# Altium integrated library Cypress Clocks & Buffers Clock Generation.IntLib: 249 symbols (part 11 of 12)
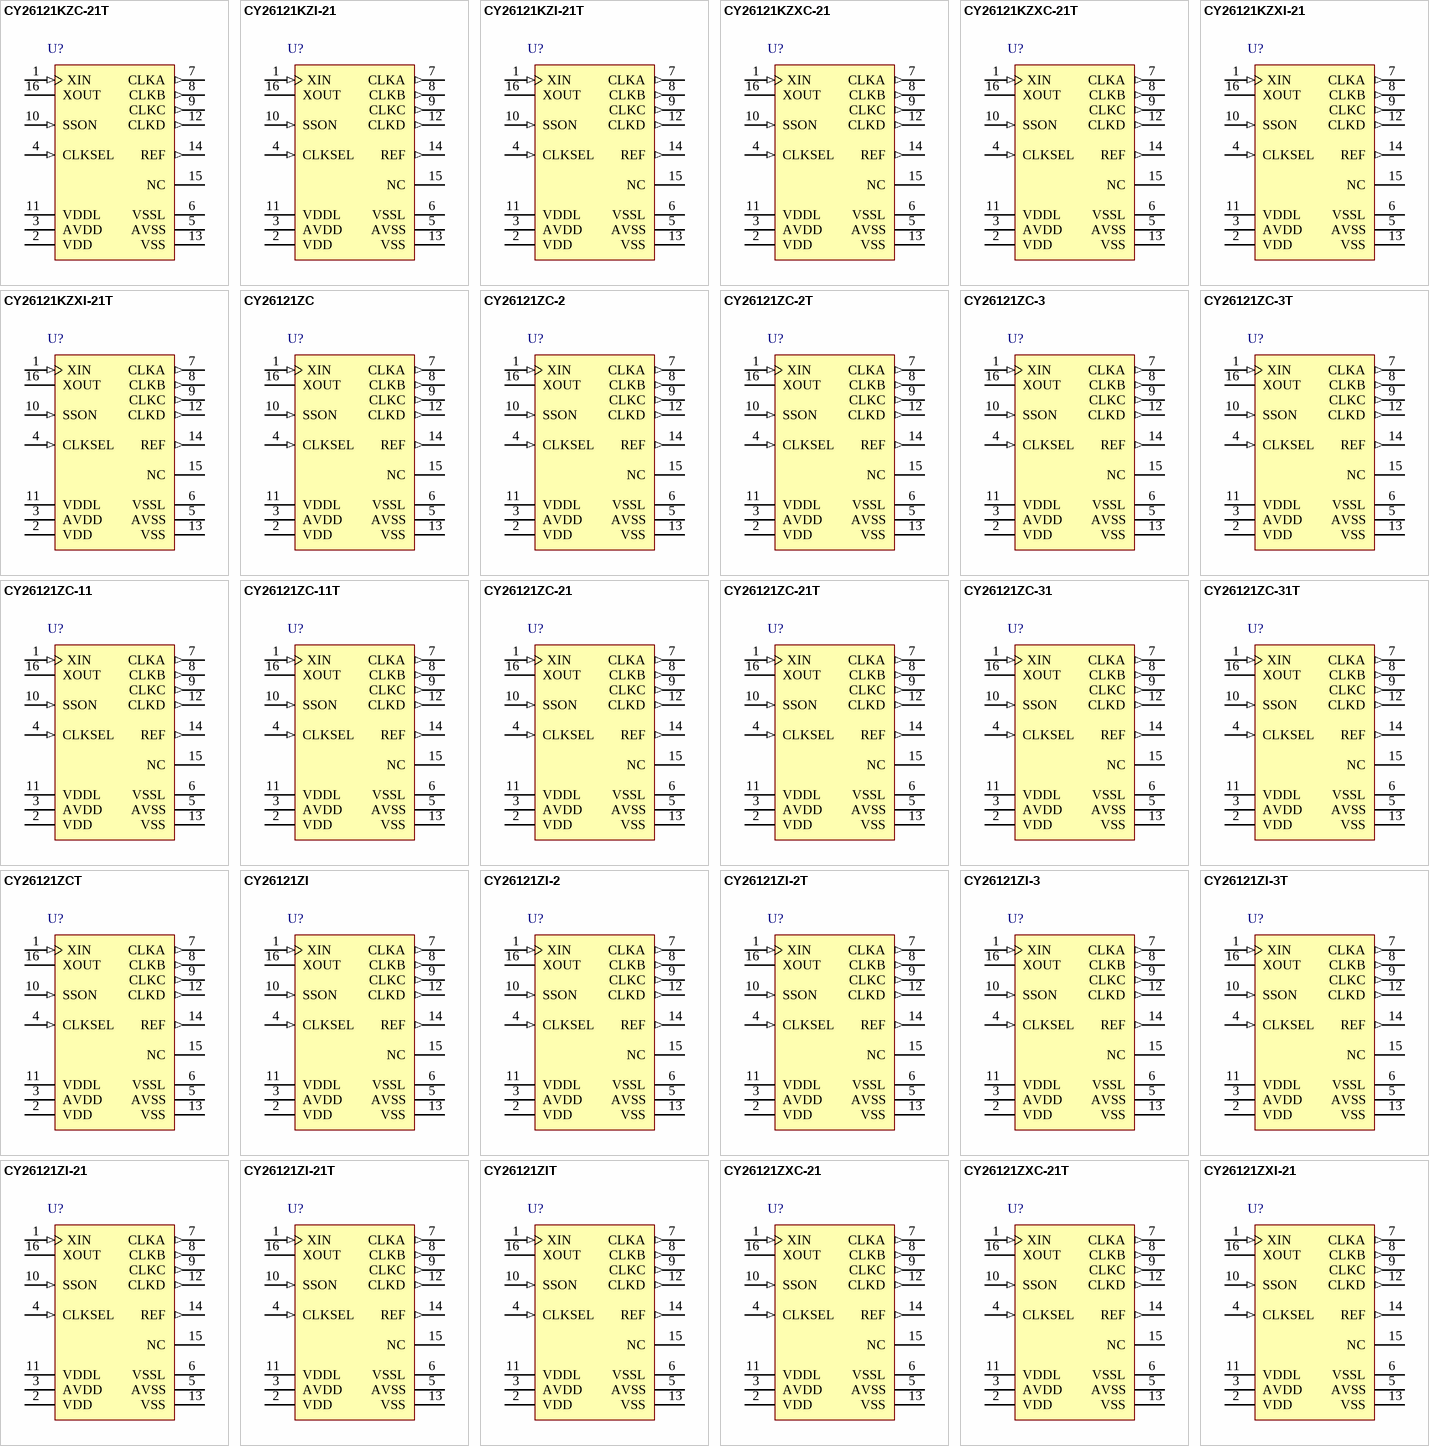
[diagram p18: symbols CY26121KZC-21T to CY26121ZXI-21]

## CY26121ZC-2T
designator U?
PacketClock(TM) Spread Spectrum Clock Generator, 3.3 V, 5 Outputs, 25 to 33.33 MHz, 0 to 70 degC, 16-Pin TSSOP (Z16), Tape and Reel; Manufacturer: Cypress; PartNumber: CY26121ZC-2T; Input Frequency Max. (MHz): 25; Max. Operating Voltage (V): 3.465; Min. Operating Voltage (V): 3.135; No. of Outputs: 5; Output Frequency Max. (MHz): 33.33; DatasheetVersion: Rev. *A; PackageVersion: Rev. *D; PackageReference: Z16; PackageDescription: 16-Pin Thin Shrink Small Outline Package, Body 5 x 4.4 mm, Pitch 0.65 mm; Input Frequency Min. (MHz): 25; Max. Operating Temp. (degreesC): 70; Min. Operating Temp. (degreesC): 0; Output Frequency Min. (MHz): 25; Packing: Tape and Reel; RoHS: Pb-Free; Mounting Technology: Surface Mount; Code_JEDEC: MO-153; ComponentLink1Description: Manufacturer URL; ComponentLink1URL: http://www.cypress.com/; ComponentLink2Description: Datasheet; ComponentLink2URL: http://www.cypress.com/?docID=5302; ComponentLink3Description: Package Specification; ComponentLink3URL: http://www.cypress.com/?docID=46959
footprint CYP-Z16_N (SOP, 16-Leads, Body 5.1x4.5mm, Pitch 0.65mm, IPC Medium Density)
footprint CYP-Z16_L (SOP, 16-Leads, Body 5.1x4.5mm, Pitch 0.65mm, IPC High Density)
footprint CYP-Z16_M (SOP, 16-Leads, Body 5.1x4.5mm, Pitch 0.65mm, IPC Low Density)
pins: 1 XIN (in) "Reference input Or Crystal Input", 2 VDD (power) "3.3V Voltage Supply", 3 AVDD (power) "3.3V Analog Voltage", 4 CLKSEL (in) "(orig., -11,-3,-31) 0 = 66.66MHz out, 1 = 33.33 MHz Out. Weak pull up. (-2, -21) 0 = 33.33MHz out, 1 = 25 MHz Out. Weak pull up.", 5 AVSS (power) "Analog Ground", 6 VSSL (power) "CLK Ground", 7 CLKA (out) "Clock Outputs at VDDL level", 8 CLKB (out) "Clock Outputs at VDDL level", 9 CLKC (out) "Clock Outputs at VDDL level", 10 SSON (in) "Spread Spectrum Enable pin 0 = SS off; 1 = SS on. Weak pull up.", 11 VDDL (power) "3.3V Clock Voltage Supply", 12 CLKD (out) "Clock Outputs at VDDL level", 13 VSS (power) "Ground", 14 REF (out) "Reference Output at VDD Level", 15 NC "No Connect", 16 XOUT "Crystal Output"

## CY26121ZC-3
designator U?
PacketClock(TM) Spread Spectrum Clock Generator, 3.3 V, 5 Outputs, 33.33 to 66.66 MHz, 0 to 70 degC, 16-Pin TSSOP (Z16), Tube; Manufacturer: Cypress; PartNumber: CY26121ZC-3; Input Frequency Max. (MHz): 25; Max. Operating Voltage (V): 3.465; Min. Operating Voltage (V): 3.135; No. of Outputs: 5; Output Frequency Max. (MHz): 66.66; Output Frequency Min. (MHz): 33.33; DatasheetVersion: Rev. *A; PackageVersion: Rev. *D; PackageReference: Z16; PackageDescription: 16-Pin Thin Shrink Small Outline Package, Body 5 x 4.4 mm, Pitch 0.65 mm; Input Frequency Min. (MHz): 25; Max. Operating Temp. (degreesC): 70; Min. Operating Temp. (degreesC): 0; Packing: Tube; RoHS: Pb-Free; Mounting Technology: Surface Mount; Code_JEDEC: MO-153; ComponentLink1Description: Manufacturer URL; ComponentLink1URL: http://www.cypress.com/; ComponentLink2Description: Datasheet; ComponentLink2URL: http://www.cypress.com/?docID=5302; ComponentLink3Description: Package Specification; ComponentLink3URL: http://www.cypress.com/?docID=46959
footprint CYP-Z16_N (SOP, 16-Leads, Body 5.1x4.5mm, Pitch 0.65mm, IPC Medium Density)
footprint CYP-Z16_L (SOP, 16-Leads, Body 5.1x4.5mm, Pitch 0.65mm, IPC High Density)
footprint CYP-Z16_M (SOP, 16-Leads, Body 5.1x4.5mm, Pitch 0.65mm, IPC Low Density)
pins: 1 XIN (in) "Reference input Or Crystal Input", 2 VDD (power) "3.3V Voltage Supply", 3 AVDD (power) "3.3V Analog Voltage", 4 CLKSEL (in) "(orig., -11,-3,-31) 0 = 66.66MHz out, 1 = 33.33 MHz Out. Weak pull up. (-2, -21) 0 = 33.33MHz out, 1 = 25 MHz Out. Weak pull up.", 5 AVSS (power) "Analog Ground", 6 VSSL (power) "CLK Ground", 7 CLKA (out) "Clock Outputs at VDDL level", 8 CLKB (out) "Clock Outputs at VDDL level", 9 CLKC (out) "Clock Outputs at VDDL level", 10 SSON (in) "Spread Spectrum Enable pin 0 = SS off; 1 = SS on. Weak pull up.", 11 VDDL (power) "3.3V Clock Voltage Supply", 12 CLKD (out) "Clock Outputs at VDDL level", 13 VSS (power) "Ground", 14 REF (out) "Reference Output at VDD Level", 15 NC "No Connect", 16 XOUT "Crystal Output"

## CY26121ZC-3T
designator U?
PacketClock(TM) Spread Spectrum Clock Generator, 3.3 V, 5 Outputs, 33.33 to 66.66 MHz, 0 to 70 degC, 16-Pin TSSOP (Z16), Tape and Reel; Manufacturer: Cypress; PartNumber: CY26121ZC-3T; Input Frequency Max. (MHz): 25; Max. Operating Voltage (V): 3.465; Min. Operating Voltage (V): 3.135; No. of Outputs: 5; Output Frequency Max. (MHz): 66.66; Output Frequency Min. (MHz): 33.33; DatasheetVersion: Rev. *A; PackageVersion: Rev. *D; PackageReference: Z16; PackageDescription: 16-Pin Thin Shrink Small Outline Package, Body 5 x 4.4 mm, Pitch 0.65 mm; Input Frequency Min. (MHz): 25; Max. Operating Temp. (degreesC): 70; Min. Operating Temp. (degreesC): 0; Packing: Tape and Reel; RoHS: Pb-Free; Mounting Technology: Surface Mount; Code_JEDEC: MO-153; ComponentLink1Description: Manufacturer URL; ComponentLink1URL: http://www.cypress.com/; ComponentLink2Description: Datasheet; ComponentLink2URL: http://www.cypress.com/?docID=5302; ComponentLink3Description: Package Specification; ComponentLink3URL: http://www.cypress.com/?docID=46959
footprint CYP-Z16_N (SOP, 16-Leads, Body 5.1x4.5mm, Pitch 0.65mm, IPC Medium Density)
footprint CYP-Z16_L (SOP, 16-Leads, Body 5.1x4.5mm, Pitch 0.65mm, IPC High Density)
footprint CYP-Z16_M (SOP, 16-Leads, Body 5.1x4.5mm, Pitch 0.65mm, IPC Low Density)
pins: 1 XIN (in) "Reference input Or Crystal Input", 2 VDD (power) "3.3V Voltage Supply", 3 AVDD (power) "3.3V Analog Voltage", 4 CLKSEL (in) "(orig., -11,-3,-31) 0 = 66.66MHz out, 1 = 33.33 MHz Out. Weak pull up. (-2, -21) 0 = 33.33MHz out, 1 = 25 MHz Out. Weak pull up.", 5 AVSS (power) "Analog Ground", 6 VSSL (power) "CLK Ground", 7 CLKA (out) "Clock Outputs at VDDL level", 8 CLKB (out) "Clock Outputs at VDDL level", 9 CLKC (out) "Clock Outputs at VDDL level", 10 SSON (in) "Spread Spectrum Enable pin 0 = SS off; 1 = SS on. Weak pull up.", 11 VDDL (power) "3.3V Clock Voltage Supply", 12 CLKD (out) "Clock Outputs at VDDL level", 13 VSS (power) "Ground", 14 REF (out) "Reference Output at VDD Level", 15 NC "No Connect", 16 XOUT "Crystal Output"

## CY26121ZC-11
designator U?
PacketClock(TM) Spread Spectrum Clock Generator, 3.3 V, 5 Outputs, 33.33 to 66.66 MHz, 0 to 70 degC, 16-Pin TSSOP (Z16), Tube; Manufacturer: Cypress; PartNumber: CY26121ZC-11; Input Frequency Max. (MHz): 25; Max. Operating Voltage (V): 3.465; Min. Operating Voltage (V): 3.135; No. of Outputs: 5; Output Frequency Max. (MHz): 66.66; Output Frequency Min. (MHz): 33.33; DatasheetVersion: Rev. *A; PackageVersion: Rev. *D; PackageReference: Z16; PackageDescription: 16-Pin Thin Shrink Small Outline Package, Body 5 x 4.4 mm, Pitch 0.65 mm; Input Frequency Min. (MHz): 25; Max. Operating Temp. (degreesC): 70; Min. Operating Temp. (degreesC): 0; Packing: Tube; RoHS: Pb-Free; Mounting Technology: Surface Mount; Code_JEDEC: MO-153; ComponentLink1Description: Manufacturer URL; ComponentLink1URL: http://www.cypress.com/; ComponentLink2Description: Datasheet; ComponentLink2URL: http://www.cypress.com/?docID=5302; ComponentLink3Description: Package Specification; ComponentLink3URL: http://www.cypress.com/?docID=46959
footprint CYP-Z16_N (SOP, 16-Leads, Body 5.1x4.5mm, Pitch 0.65mm, IPC Medium Density)
footprint CYP-Z16_L (SOP, 16-Leads, Body 5.1x4.5mm, Pitch 0.65mm, IPC High Density)
footprint CYP-Z16_M (SOP, 16-Leads, Body 5.1x4.5mm, Pitch 0.65mm, IPC Low Density)
pins: 1 XIN (in) "Reference input Or Crystal Input", 2 VDD (power) "3.3V Voltage Supply", 3 AVDD (power) "3.3V Analog Voltage", 4 CLKSEL (in) "(orig., -11,-3,-31) 0 = 66.66MHz out, 1 = 33.33 MHz Out. Weak pull up. (-2, -21) 0 = 33.33MHz out, 1 = 25 MHz Out. Weak pull up.", 5 AVSS (power) "Analog Ground", 6 VSSL (power) "CLK Ground", 7 CLKA (out) "Clock Outputs at VDDL level", 8 CLKB (out) "Clock Outputs at VDDL level", 9 CLKC (out) "Clock Outputs at VDDL level", 10 SSON (in) "Spread Spectrum Enable pin 0 = SS off; 1 = SS on. Weak pull up.", 11 VDDL (power) "3.3V Clock Voltage Supply", 12 CLKD (out) "Clock Outputs at VDDL level", 13 VSS (power) "Ground", 14 REF (out) "Reference Output at VDD Level", 15 NC "No Connect", 16 XOUT "Crystal Output"

## CY26121ZC-11T
designator U?
PacketClock(TM) Spread Spectrum Clock Generator, 3.3 V, 5 Outputs, 33.33 to 66.66 MHz, 0 to 70 degC, 16-Pin TSSOP (Z16), Tape and Reel; Manufacturer: Cypress; PartNumber: CY26121ZC-11T; Input Frequency Max. (MHz): 25; Max. Operating Voltage (V): 3.465; Min. Operating Voltage (V): 3.135; No. of Outputs: 5; Output Frequency Max. (MHz): 66.66; Output Frequency Min. (MHz): 33.33; DatasheetVersion: Rev. *A; PackageVersion: Rev. *D; PackageReference: Z16; PackageDescription: 16-Pin Thin Shrink Small Outline Package, Body 5 x 4.4 mm, Pitch 0.65 mm; Input Frequency Min. (MHz): 25; Max. Operating Temp. (degreesC): 70; Min. Operating Temp. (degreesC): 0; Packing: Tape and Reel; RoHS: Pb-Free; Mounting Technology: Surface Mount; Code_JEDEC: MO-153; ComponentLink1Description: Manufacturer URL; ComponentLink1URL: http://www.cypress.com/; ComponentLink2Description: Datasheet; ComponentLink2URL: http://www.cypress.com/?docID=5302; ComponentLink3Description: Package Specification; ComponentLink3URL: http://www.cypress.com/?docID=46959
footprint CYP-Z16_N (SOP, 16-Leads, Body 5.1x4.5mm, Pitch 0.65mm, IPC Medium Density)
footprint CYP-Z16_L (SOP, 16-Leads, Body 5.1x4.5mm, Pitch 0.65mm, IPC High Density)
footprint CYP-Z16_M (SOP, 16-Leads, Body 5.1x4.5mm, Pitch 0.65mm, IPC Low Density)
pins: 1 XIN (in) "Reference input Or Crystal Input", 2 VDD (power) "3.3V Voltage Supply", 3 AVDD (power) "3.3V Analog Voltage", 4 CLKSEL (in) "(orig., -11,-3,-31) 0 = 66.66MHz out, 1 = 33.33 MHz Out. Weak pull up. (-2, -21) 0 = 33.33MHz out, 1 = 25 MHz Out. Weak pull up.", 5 AVSS (power) "Analog Ground", 6 VSSL (power) "CLK Ground", 7 CLKA (out) "Clock Outputs at VDDL level", 8 CLKB (out) "Clock Outputs at VDDL level", 9 CLKC (out) "Clock Outputs at VDDL level", 10 SSON (in) "Spread Spectrum Enable pin 0 = SS off; 1 = SS on. Weak pull up.", 11 VDDL (power) "3.3V Clock Voltage Supply", 12 CLKD (out) "Clock Outputs at VDDL level", 13 VSS (power) "Ground", 14 REF (out) "Reference Output at VDD Level", 15 NC "No Connect", 16 XOUT "Crystal Output"

## CY26121ZC-21
designator U?
PacketClock(TM) Spread Spectrum Clock Generator, 3.3 V, 5 Outputs, 25 to 33.33 MHz, 0 to 70 degC, 16-Pin TSSOP (Z16), Tube; Manufacturer: Cypress; PartNumber: CY26121ZC-21; Input Frequency Max. (MHz): 25; Max. Operating Voltage (V): 3.465; Min. Operating Voltage (V): 3.135; No. of Outputs: 5; Output Frequency Max. (MHz): 33.33; DatasheetVersion: Rev. *A; PackageVersion: Rev. *D; PackageReference: Z16; PackageDescription: 16-Pin Thin Shrink Small Outline Package, Body 5 x 4.4 mm, Pitch 0.65 mm; Supplier 1: Digi-Key; Supplier Part Number 1: CY26121ZC-21-ND; Supplier 2: Mouser; Supplier Part Number 2: 727-CY26121ZC21; Input Frequency Min. (MHz): 25; Max. Operating Temp. (degreesC): 70; Min. Operating Temp. (degreesC): 0; Output Frequency Min. (MHz): 25; Packing: Tube; RoHS: Pb-Free; Mounting Technology: Surface Mount; Code_JEDEC: MO-153; ComponentLink1Description: Manufacturer URL; ComponentLink1URL: http://www.cypress.com/; ComponentLink2Description: Datasheet; ComponentLink2URL: http://www.cypress.com/?docID=5302; ComponentLink3Description: Package Specification; ComponentLink3URL: http://www.cypress.com/?docID=46959
footprint CYP-Z16_N (SOP, 16-Leads, Body 5.1x4.5mm, Pitch 0.65mm, IPC Medium Density)
footprint CYP-Z16_L (SOP, 16-Leads, Body 5.1x4.5mm, Pitch 0.65mm, IPC High Density)
footprint CYP-Z16_M (SOP, 16-Leads, Body 5.1x4.5mm, Pitch 0.65mm, IPC Low Density)
pins: 1 XIN (in) "Reference input Or Crystal Input", 2 VDD (power) "3.3V Voltage Supply", 3 AVDD (power) "3.3V Analog Voltage", 4 CLKSEL (in) "(orig., -11,-3,-31) 0 = 66.66MHz out, 1 = 33.33 MHz Out. Weak pull up. (-2, -21) 0 = 33.33MHz out, 1 = 25 MHz Out. Weak pull up.", 5 AVSS (power) "Analog Ground", 6 VSSL (power) "CLK Ground", 7 CLKA (out) "Clock Outputs at VDDL level", 8 CLKB (out) "Clock Outputs at VDDL level", 9 CLKC (out) "Clock Outputs at VDDL level", 10 SSON (in) "Spread Spectrum Enable pin 0 = SS off; 1 = SS on. Weak pull up.", 11 VDDL (power) "3.3V Clock Voltage Supply", 12 CLKD (out) "Clock Outputs at VDDL level", 13 VSS (power) "Ground", 14 REF (out) "Reference Output at VDD Level", 15 NC "No Connect", 16 XOUT "Crystal Output"

## CY26121ZC-21T
designator U?
PacketClock(TM) Spread Spectrum Clock Generator, 3.3 V, 5 Outputs, 25 to 33.33 MHz, 0 to 70 degC, 16-Pin TSSOP (Z16), Tape and Reel; Manufacturer: Cypress; PartNumber: CY26121ZC-21T; Input Frequency Max. (MHz): 25; Max. Operating Voltage (V): 3.465; Min. Operating Voltage (V): 3.135; No. of Outputs: 5; Output Frequency Max. (MHz): 33.33; DatasheetVersion: Rev. *A; PackageVersion: Rev. *D; PackageReference: Z16; PackageDescription: 16-Pin Thin Shrink Small Outline Package, Body 5 x 4.4 mm, Pitch 0.65 mm; Supplier 1: Digi-Key; Supplier Part Number 1: CY26121ZC-21T-ND; Supplier 2: Mouser; Supplier Part Number 2: 727-CY26121ZC-21T; Input Frequency Min. (MHz): 25; Max. Operating Temp. (degreesC): 70; Min. Operating Temp. (degreesC): 0; Output Frequency Min. (MHz): 25; Packing: Tape and Reel; RoHS: Pb-Free; Mounting Technology: Surface Mount; Code_JEDEC: MO-153; ComponentLink1Description: Manufacturer URL; ComponentLink1URL: http://www.cypress.com/; ComponentLink2Description: Datasheet; ComponentLink2URL: http://www.cypress.com/?docID=5302; ComponentLink3Description: Package Specification; ComponentLink3URL: http://www.cypress.com/?docID=46959
footprint CYP-Z16_N (SOP, 16-Leads, Body 5.1x4.5mm, Pitch 0.65mm, IPC Medium Density)
footprint CYP-Z16_L (SOP, 16-Leads, Body 5.1x4.5mm, Pitch 0.65mm, IPC High Density)
footprint CYP-Z16_M (SOP, 16-Leads, Body 5.1x4.5mm, Pitch 0.65mm, IPC Low Density)
pins: 1 XIN (in) "Reference input Or Crystal Input", 2 VDD (power) "3.3V Voltage Supply", 3 AVDD (power) "3.3V Analog Voltage", 4 CLKSEL (in) "(orig., -11,-3,-31) 0 = 66.66MHz out, 1 = 33.33 MHz Out. Weak pull up. (-2, -21) 0 = 33.33MHz out, 1 = 25 MHz Out. Weak pull up.", 5 AVSS (power) "Analog Ground", 6 VSSL (power) "CLK Ground", 7 CLKA (out) "Clock Outputs at VDDL level", 8 CLKB (out) "Clock Outputs at VDDL level", 9 CLKC (out) "Clock Outputs at VDDL level", 10 SSON (in) "Spread Spectrum Enable pin 0 = SS off; 1 = SS on. Weak pull up.", 11 VDDL (power) "3.3V Clock Voltage Supply", 12 CLKD (out) "Clock Outputs at VDDL level", 13 VSS (power) "Ground", 14 REF (out) "Reference Output at VDD Level", 15 NC "No Connect", 16 XOUT "Crystal Output"

## CY26121ZC-31
designator U?
PacketClock(TM) Spread Spectrum Clock Generator, 3.3 V, 5 Outputs, 33.33 to 66.66 MHz, 0 to 70 degC, 16-Pin TSSOP (Z16), Tube; Manufacturer: Cypress; PartNumber: CY26121ZC-31; Input Frequency Max. (MHz): 25; Max. Operating Voltage (V): 3.465; Min. Operating Voltage (V): 3.135; No. of Outputs: 5; Output Frequency Max. (MHz): 66.66; Output Frequency Min. (MHz): 33.33; DatasheetVersion: Rev. *A; PackageVersion: Rev. *D; PackageReference: Z16; PackageDescription: 16-Pin Thin Shrink Small Outline Package, Body 5 x 4.4 mm, Pitch 0.65 mm; Input Frequency Min. (MHz): 25; Max. Operating Temp. (degreesC): 70; Min. Operating Temp. (degreesC): 0; Packing: Tube; RoHS: Pb-Free; Mounting Technology: Surface Mount; Code_JEDEC: MO-153; ComponentLink1Description: Manufacturer URL; ComponentLink1URL: http://www.cypress.com/; ComponentLink2Description: Datasheet; ComponentLink2URL: http://www.cypress.com/?docID=5302; ComponentLink3Description: Package Specification; ComponentLink3URL: http://www.cypress.com/?docID=46959
footprint CYP-Z16_N (SOP, 16-Leads, Body 5.1x4.5mm, Pitch 0.65mm, IPC Medium Density)
footprint CYP-Z16_L (SOP, 16-Leads, Body 5.1x4.5mm, Pitch 0.65mm, IPC High Density)
footprint CYP-Z16_M (SOP, 16-Leads, Body 5.1x4.5mm, Pitch 0.65mm, IPC Low Density)
pins: 1 XIN (in) "Reference input Or Crystal Input", 2 VDD (power) "3.3V Voltage Supply", 3 AVDD (power) "3.3V Analog Voltage", 4 CLKSEL (in) "(orig., -11,-3,-31) 0 = 66.66MHz out, 1 = 33.33 MHz Out. Weak pull up. (-2, -21) 0 = 33.33MHz out, 1 = 25 MHz Out. Weak pull up.", 5 AVSS (power) "Analog Ground", 6 VSSL (power) "CLK Ground", 7 CLKA (out) "Clock Outputs at VDDL level", 8 CLKB (out) "Clock Outputs at VDDL level", 9 CLKC (out) "Clock Outputs at VDDL level", 10 SSON (in) "Spread Spectrum Enable pin 0 = SS off; 1 = SS on. Weak pull up.", 11 VDDL (power) "3.3V Clock Voltage Supply", 12 CLKD (out) "Clock Outputs at VDDL level", 13 VSS (power) "Ground", 14 REF (out) "Reference Output at VDD Level", 15 NC "No Connect", 16 XOUT "Crystal Output"

## CY26121ZC-31T
designator U?
PacketClock(TM) Spread Spectrum Clock Generator, 3.3 V, 5 Outputs, 33.33 to 66.66 MHz, 0 to 70 degC, 16-Pin TSSOP (Z16), Tape and Reel; Manufacturer: Cypress; PartNumber: CY26121ZC-31T; Input Frequency Max. (MHz): 25; Max. Operating Voltage (V): 3.465; Min. Operating Voltage (V): 3.135; No. of Outputs: 5; Output Frequency Max. (MHz): 66.66; Output Frequency Min. (MHz): 33.33; DatasheetVersion: Rev. *A; PackageVersion: Rev. *D; PackageReference: Z16; PackageDescription: 16-Pin Thin Shrink Small Outline Package, Body 5 x 4.4 mm, Pitch 0.65 mm; Input Frequency Min. (MHz): 25; Max. Operating Temp. (degreesC): 70; Min. Operating Temp. (degreesC): 0; Packing: Tape and Reel; RoHS: Pb-Free; Mounting Technology: Surface Mount; Code_JEDEC: MO-153; ComponentLink1Description: Manufacturer URL; ComponentLink1URL: http://www.cypress.com/; ComponentLink2Description: Datasheet; ComponentLink2URL: http://www.cypress.com/?docID=5302; ComponentLink3Description: Package Specification; ComponentLink3URL: http://www.cypress.com/?docID=46959
footprint CYP-Z16_N (SOP, 16-Leads, Body 5.1x4.5mm, Pitch 0.65mm, IPC Medium Density)
footprint CYP-Z16_L (SOP, 16-Leads, Body 5.1x4.5mm, Pitch 0.65mm, IPC High Density)
footprint CYP-Z16_M (SOP, 16-Leads, Body 5.1x4.5mm, Pitch 0.65mm, IPC Low Density)
pins: 1 XIN (in) "Reference input Or Crystal Input", 2 VDD (power) "3.3V Voltage Supply", 3 AVDD (power) "3.3V Analog Voltage", 4 CLKSEL (in) "(orig., -11,-3,-31) 0 = 66.66MHz out, 1 = 33.33 MHz Out. Weak pull up. (-2, -21) 0 = 33.33MHz out, 1 = 25 MHz Out. Weak pull up.", 5 AVSS (power) "Analog Ground", 6 VSSL (power) "CLK Ground", 7 CLKA (out) "Clock Outputs at VDDL level", 8 CLKB (out) "Clock Outputs at VDDL level", 9 CLKC (out) "Clock Outputs at VDDL level", 10 SSON (in) "Spread Spectrum Enable pin 0 = SS off; 1 = SS on. Weak pull up.", 11 VDDL (power) "3.3V Clock Voltage Supply", 12 CLKD (out) "Clock Outputs at VDDL level", 13 VSS (power) "Ground", 14 REF (out) "Reference Output at VDD Level", 15 NC "No Connect", 16 XOUT "Crystal Output"

## CY26121ZCT
designator U?
PacketClock(TM) Spread Spectrum Clock Generator, 3.3 V, 5 Outputs, 33.33 to 66.66 MHz, 0 to 70 degC, 16-Pin TSSOP (Z16), Tape and Reel; Manufacturer: Cypress; PartNumber: CY26121ZCT; Input Frequency Max. (MHz): 25; Max. Operating Voltage (V): 3.465; Min. Operating Voltage (V): 3.135; No. of Outputs: 5; Output Frequency Max. (MHz): 66.66; Output Frequency Min. (MHz): 33.33; DatasheetVersion: Rev. *A; PackageVersion: Rev. *D; PackageReference: Z16; PackageDescription: 16-Pin Thin Shrink Small Outline Package, Body 5 x 4.4 mm, Pitch 0.65 mm; Input Frequency Min. (MHz): 25; Max. Operating Temp. (degreesC): 70; Min. Operating Temp. (degreesC): 0; Packing: Tape and Reel; RoHS: Pb-Free; Mounting Technology: Surface Mount; Code_JEDEC: MO-153; ComponentLink1Description: Manufacturer URL; ComponentLink1URL: http://www.cypress.com/; ComponentLink2Description: Datasheet; ComponentLink2URL: http://www.cypress.com/?docID=5302; ComponentLink3Description: Package Specification; ComponentLink3URL: http://www.cypress.com/?docID=46959
footprint CYP-Z16_N (SOP, 16-Leads, Body 5.1x4.5mm, Pitch 0.65mm, IPC Medium Density)
footprint CYP-Z16_L (SOP, 16-Leads, Body 5.1x4.5mm, Pitch 0.65mm, IPC High Density)
footprint CYP-Z16_M (SOP, 16-Leads, Body 5.1x4.5mm, Pitch 0.65mm, IPC Low Density)
pins: 1 XIN (in) "Reference input Or Crystal Input", 2 VDD (power) "3.3V Voltage Supply", 3 AVDD (power) "3.3V Analog Voltage", 4 CLKSEL (in) "(orig., -11,-3,-31) 0 = 66.66MHz out, 1 = 33.33 MHz Out. Weak pull up. (-2, -21) 0 = 33.33MHz out, 1 = 25 MHz Out. Weak pull up.", 5 AVSS (power) "Analog Ground", 6 VSSL (power) "CLK Ground", 7 CLKA (out) "Clock Outputs at VDDL level", 8 CLKB (out) "Clock Outputs at VDDL level", 9 CLKC (out) "Clock Outputs at VDDL level", 10 SSON (in) "Spread Spectrum Enable pin 0 = SS off; 1 = SS on. Weak pull up.", 11 VDDL (power) "3.3V Clock Voltage Supply", 12 CLKD (out) "Clock Outputs at VDDL level", 13 VSS (power) "Ground", 14 REF (out) "Reference Output at VDD Level", 15 NC "No Connect", 16 XOUT "Crystal Output"

## CY26121ZI
designator U?
PacketClock(TM) Spread Spectrum Clock Generator, 3.3 V, 5 Outputs, 33.33 to 66.66 MHz, -40 to 85 degC, 16-Pin TSSOP (Z16), Tube; Manufacturer: Cypress; PartNumber: CY26121ZI; Input Frequency Max. (MHz): 25; Max. Operating Voltage (V): 3.465; Min. Operating Voltage (V): 3.135; No. of Outputs: 5; Output Frequency Max. (MHz): 66.66; Output Frequency Min. (MHz): 33.33; DatasheetVersion: Rev. *A; PackageVersion: Rev. *D; PackageReference: Z16; PackageDescription: 16-Pin Thin Shrink Small Outline Package, Body 5 x 4.4 mm, Pitch 0.65 mm; Input Frequency Min. (MHz): 25; Max. Operating Temp. (degreesC): 85; Min. Operating Temp. (degreesC): -40; Packing: Tube; RoHS: Pb-Free; Mounting Technology: Surface Mount; Code_JEDEC: MO-153; ComponentLink1Description: Manufacturer URL; ComponentLink1URL: http://www.cypress.com/; ComponentLink2Description: Datasheet; ComponentLink2URL: http://www.cypress.com/?docID=5302; ComponentLink3Description: Package Specification; ComponentLink3URL: http://www.cypress.com/?docID=46959
footprint CYP-Z16_N (SOP, 16-Leads, Body 5.1x4.5mm, Pitch 0.65mm, IPC Medium Density)
footprint CYP-Z16_L (SOP, 16-Leads, Body 5.1x4.5mm, Pitch 0.65mm, IPC High Density)
footprint CYP-Z16_M (SOP, 16-Leads, Body 5.1x4.5mm, Pitch 0.65mm, IPC Low Density)
pins: 1 XIN (in) "Reference input Or Crystal Input", 2 VDD (power) "3.3V Voltage Supply", 3 AVDD (power) "3.3V Analog Voltage", 4 CLKSEL (in) "(orig., -11,-3,-31) 0 = 66.66MHz out, 1 = 33.33 MHz Out. Weak pull up. (-2, -21) 0 = 33.33MHz out, 1 = 25 MHz Out. Weak pull up.", 5 AVSS (power) "Analog Ground", 6 VSSL (power) "CLK Ground", 7 CLKA (out) "Clock Outputs at VDDL level", 8 CLKB (out) "Clock Outputs at VDDL level", 9 CLKC (out) "Clock Outputs at VDDL level", 10 SSON (in) "Spread Spectrum Enable pin 0 = SS off; 1 = SS on. Weak pull up.", 11 VDDL (power) "3.3V Clock Voltage Supply", 12 CLKD (out) "Clock Outputs at VDDL level", 13 VSS (power) "Ground", 14 REF (out) "Reference Output at VDD Level", 15 NC "No Connect", 16 XOUT "Crystal Output"

## CY26121ZI-2
designator U?
PacketClock(TM) Spread Spectrum Clock Generator, 3.3 V, 5 Outputs, 25 to 33.33 MHz, -40 to 85 degC, 16-Pin TSSOP (Z16), Tube; Manufacturer: Cypress; PartNumber: CY26121ZI-2; Input Frequency Max. (MHz): 25; Max. Operating Voltage (V): 3.465; Min. Operating Voltage (V): 3.135; No. of Outputs: 5; Output Frequency Max. (MHz): 33.33; DatasheetVersion: Rev. *A; PackageVersion: Rev. *D; PackageReference: Z16; PackageDescription: 16-Pin Thin Shrink Small Outline Package, Body 5 x 4.4 mm, Pitch 0.65 mm; Input Frequency Min. (MHz): 25; Max. Operating Temp. (degreesC): 85; Min. Operating Temp. (degreesC): -40; Output Frequency Min. (MHz): 25; Packing: Tube; RoHS: Pb-Free; Mounting Technology: Surface Mount; Code_JEDEC: MO-153; ComponentLink1Description: Manufacturer URL; ComponentLink1URL: http://www.cypress.com/; ComponentLink2Description: Datasheet; ComponentLink2URL: http://www.cypress.com/?docID=5302; ComponentLink3Description: Package Specification; ComponentLink3URL: http://www.cypress.com/?docID=46959
footprint CYP-Z16_N (SOP, 16-Leads, Body 5.1x4.5mm, Pitch 0.65mm, IPC Medium Density)
footprint CYP-Z16_L (SOP, 16-Leads, Body 5.1x4.5mm, Pitch 0.65mm, IPC High Density)
footprint CYP-Z16_M (SOP, 16-Leads, Body 5.1x4.5mm, Pitch 0.65mm, IPC Low Density)
pins: 1 XIN (in) "Reference input Or Crystal Input", 2 VDD (power) "3.3V Voltage Supply", 3 AVDD (power) "3.3V Analog Voltage", 4 CLKSEL (in) "(orig., -11,-3,-31) 0 = 66.66MHz out, 1 = 33.33 MHz Out. Weak pull up. (-2, -21) 0 = 33.33MHz out, 1 = 25 MHz Out. Weak pull up.", 5 AVSS (power) "Analog Ground", 6 VSSL (power) "CLK Ground", 7 CLKA (out) "Clock Outputs at VDDL level", 8 CLKB (out) "Clock Outputs at VDDL level", 9 CLKC (out) "Clock Outputs at VDDL level", 10 SSON (in) "Spread Spectrum Enable pin 0 = SS off; 1 = SS on. Weak pull up.", 11 VDDL (power) "3.3V Clock Voltage Supply", 12 CLKD (out) "Clock Outputs at VDDL level", 13 VSS (power) "Ground", 14 REF (out) "Reference Output at VDD Level", 15 NC "No Connect", 16 XOUT "Crystal Output"

## CY26121ZI-2T
designator U?
PacketClock(TM) Spread Spectrum Clock Generator, 3.3 V, 5 Outputs, 25 to 33.33 MHz, -40 to 85 degC, 16-Pin TSSOP (Z16), Tape and Reel; Manufacturer: Cypress; PartNumber: CY26121ZI-2T; Input Frequency Max. (MHz): 25; Max. Operating Voltage (V): 3.465; Min. Operating Voltage (V): 3.135; No. of Outputs: 5; Output Frequency Max. (MHz): 33.33; DatasheetVersion: Rev. *A; PackageVersion: Rev. *D; PackageReference: Z16; PackageDescription: 16-Pin Thin Shrink Small Outline Package, Body 5 x 4.4 mm, Pitch 0.65 mm; Input Frequency Min. (MHz): 25; Max. Operating Temp. (degreesC): 85; Min. Operating Temp. (degreesC): -40; Output Frequency Min. (MHz): 25; Packing: Tape and Reel; RoHS: Pb-Free; Mounting Technology: Surface Mount; Code_JEDEC: MO-153; ComponentLink1Description: Manufacturer URL; ComponentLink1URL: http://www.cypress.com/; ComponentLink2Description: Datasheet; ComponentLink2URL: http://www.cypress.com/?docID=5302; ComponentLink3Description: Package Specification; ComponentLink3URL: http://www.cypress.com/?docID=46959
footprint CYP-Z16_N (SOP, 16-Leads, Body 5.1x4.5mm, Pitch 0.65mm, IPC Medium Density)
footprint CYP-Z16_L (SOP, 16-Leads, Body 5.1x4.5mm, Pitch 0.65mm, IPC High Density)
footprint CYP-Z16_M (SOP, 16-Leads, Body 5.1x4.5mm, Pitch 0.65mm, IPC Low Density)
pins: 1 XIN (in) "Reference input Or Crystal Input", 2 VDD (power) "3.3V Voltage Supply", 3 AVDD (power) "3.3V Analog Voltage", 4 CLKSEL (in) "(orig., -11,-3,-31) 0 = 66.66MHz out, 1 = 33.33 MHz Out. Weak pull up. (-2, -21) 0 = 33.33MHz out, 1 = 25 MHz Out. Weak pull up.", 5 AVSS (power) "Analog Ground", 6 VSSL (power) "CLK Ground", 7 CLKA (out) "Clock Outputs at VDDL level", 8 CLKB (out) "Clock Outputs at VDDL level", 9 CLKC (out) "Clock Outputs at VDDL level", 10 SSON (in) "Spread Spectrum Enable pin 0 = SS off; 1 = SS on. Weak pull up.", 11 VDDL (power) "3.3V Clock Voltage Supply", 12 CLKD (out) "Clock Outputs at VDDL level", 13 VSS (power) "Ground", 14 REF (out) "Reference Output at VDD Level", 15 NC "No Connect", 16 XOUT "Crystal Output"

## CY26121ZI-3
designator U?
PacketClock(TM) Spread Spectrum Clock Generator, 3.3 V, 5 Outputs, 33.33 to 66.66 MHz, -40 to 85 degC, 16-Pin TSSOP (Z16), Tube; Manufacturer: Cypress; PartNumber: CY26121ZI-3; Input Frequency Max. (MHz): 25; Max. Operating Voltage (V): 3.465; Min. Operating Voltage (V): 3.135; No. of Outputs: 5; Output Frequency Max. (MHz): 66.66; Output Frequency Min. (MHz): 33.33; DatasheetVersion: Rev. *A; PackageVersion: Rev. *D; PackageReference: Z16; PackageDescription: 16-Pin Thin Shrink Small Outline Package, Body 5 x 4.4 mm, Pitch 0.65 mm; Input Frequency Min. (MHz): 25; Max. Operating Temp. (degreesC): 85; Min. Operating Temp. (degreesC): -40; Packing: Tube; RoHS: Pb-Free; Mounting Technology: Surface Mount; Code_JEDEC: MO-153; ComponentLink1Description: Manufacturer URL; ComponentLink1URL: http://www.cypress.com/; ComponentLink2Description: Datasheet; ComponentLink2URL: http://www.cypress.com/?docID=5302; ComponentLink3Description: Package Specification; ComponentLink3URL: http://www.cypress.com/?docID=46959
footprint CYP-Z16_N (SOP, 16-Leads, Body 5.1x4.5mm, Pitch 0.65mm, IPC Medium Density)
footprint CYP-Z16_L (SOP, 16-Leads, Body 5.1x4.5mm, Pitch 0.65mm, IPC High Density)
footprint CYP-Z16_M (SOP, 16-Leads, Body 5.1x4.5mm, Pitch 0.65mm, IPC Low Density)
pins: 1 XIN (in) "Reference input Or Crystal Input", 2 VDD (power) "3.3V Voltage Supply", 3 AVDD (power) "3.3V Analog Voltage", 4 CLKSEL (in) "(orig., -11,-3,-31) 0 = 66.66MHz out, 1 = 33.33 MHz Out. Weak pull up. (-2, -21) 0 = 33.33MHz out, 1 = 25 MHz Out. Weak pull up.", 5 AVSS (power) "Analog Ground", 6 VSSL (power) "CLK Ground", 7 CLKA (out) "Clock Outputs at VDDL level", 8 CLKB (out) "Clock Outputs at VDDL level", 9 CLKC (out) "Clock Outputs at VDDL level", 10 SSON (in) "Spread Spectrum Enable pin 0 = SS off; 1 = SS on. Weak pull up.", 11 VDDL (power) "3.3V Clock Voltage Supply", 12 CLKD (out) "Clock Outputs at VDDL level", 13 VSS (power) "Ground", 14 REF (out) "Reference Output at VDD Level", 15 NC "No Connect", 16 XOUT "Crystal Output"

## CY26121ZI-3T
designator U?
PacketClock(TM) Spread Spectrum Clock Generator, 3.3 V, 5 Outputs, 33.33 to 66.66 MHz, -40 to 85 degC, 16-Pin TSSOP (Z16), Tape and Reel; Manufacturer: Cypress; PartNumber: CY26121ZI-3T; Input Frequency Max. (MHz): 25; Max. Operating Voltage (V): 3.465; Min. Operating Voltage (V): 3.135; No. of Outputs: 5; Output Frequency Max. (MHz): 66.66; Output Frequency Min. (MHz): 33.33; DatasheetVersion: Rev. *A; PackageVersion: Rev. *D; PackageReference: Z16; PackageDescription: 16-Pin Thin Shrink Small Outline Package, Body 5 x 4.4 mm, Pitch 0.65 mm; Input Frequency Min. (MHz): 25; Max. Operating Temp. (degreesC): 85; Min. Operating Temp. (degreesC): -40; Packing: Tape and Reel; RoHS: Pb-Free; Mounting Technology: Surface Mount; Code_JEDEC: MO-153; ComponentLink1Description: Manufacturer URL; ComponentLink1URL: http://www.cypress.com/; ComponentLink2Description: Datasheet; ComponentLink2URL: http://www.cypress.com/?docID=5302; ComponentLink3Description: Package Specification; ComponentLink3URL: http://www.cypress.com/?docID=46959
footprint CYP-Z16_N (SOP, 16-Leads, Body 5.1x4.5mm, Pitch 0.65mm, IPC Medium Density)
footprint CYP-Z16_L (SOP, 16-Leads, Body 5.1x4.5mm, Pitch 0.65mm, IPC High Density)
footprint CYP-Z16_M (SOP, 16-Leads, Body 5.1x4.5mm, Pitch 0.65mm, IPC Low Density)
pins: 1 XIN (in) "Reference input Or Crystal Input", 2 VDD (power) "3.3V Voltage Supply", 3 AVDD (power) "3.3V Analog Voltage", 4 CLKSEL (in) "(orig., -11,-3,-31) 0 = 66.66MHz out, 1 = 33.33 MHz Out. Weak pull up. (-2, -21) 0 = 33.33MHz out, 1 = 25 MHz Out. Weak pull up.", 5 AVSS (power) "Analog Ground", 6 VSSL (power) "CLK Ground", 7 CLKA (out) "Clock Outputs at VDDL level", 8 CLKB (out) "Clock Outputs at VDDL level", 9 CLKC (out) "Clock Outputs at VDDL level", 10 SSON (in) "Spread Spectrum Enable pin 0 = SS off; 1 = SS on. Weak pull up.", 11 VDDL (power) "3.3V Clock Voltage Supply", 12 CLKD (out) "Clock Outputs at VDDL level", 13 VSS (power) "Ground", 14 REF (out) "Reference Output at VDD Level", 15 NC "No Connect", 16 XOUT "Crystal Output"

## CY26121ZI-21
designator U?
PacketClock(TM) Spread Spectrum Clock Generator, 3.3 V, 5 Outputs, 25 to 33.33 MHz, -40 to 85 degC, 16-Pin TSSOP (Z16), Tube; Manufacturer: Cypress; PartNumber: CY26121ZI-21; Input Frequency Max. (MHz): 25; Max. Operating Voltage (V): 3.465; Min. Operating Voltage (V): 3.135; No. of Outputs: 5; Output Frequency Max. (MHz): 33.33; DatasheetVersion: Rev. *A; PackageVersion: Rev. *D; PackageReference: Z16; PackageDescription: 16-Pin Thin Shrink Small Outline Package, Body 5 x 4.4 mm, Pitch 0.65 mm; Supplier 1: Digi-Key; Supplier Part Number 1: CY26121ZI-21-ND; Supplier 2: Mouser; Supplier Part Number 2: 727-CY26121ZI-21; Input Frequency Min. (MHz): 25; Max. Operating Temp. (degreesC): 85; Min. Operating Temp. (degreesC): -40; Output Frequency Min. (MHz): 25; Packing: Tube; RoHS: Pb-Free; Mounting Technology: Surface Mount; Code_JEDEC: MO-153; ComponentLink1Description: Manufacturer URL; ComponentLink1URL: http://www.cypress.com/; ComponentLink2Description: Datasheet; ComponentLink2URL: http://www.cypress.com/?docID=5302; ComponentLink3Description: Package Specification; ComponentLink3URL: http://www.cypress.com/?docID=46959
footprint CYP-Z16_N (SOP, 16-Leads, Body 5.1x4.5mm, Pitch 0.65mm, IPC Medium Density)
footprint CYP-Z16_L (SOP, 16-Leads, Body 5.1x4.5mm, Pitch 0.65mm, IPC High Density)
footprint CYP-Z16_M (SOP, 16-Leads, Body 5.1x4.5mm, Pitch 0.65mm, IPC Low Density)
pins: 1 XIN (in) "Reference input Or Crystal Input", 2 VDD (power) "3.3V Voltage Supply", 3 AVDD (power) "3.3V Analog Voltage", 4 CLKSEL (in) "(orig., -11,-3,-31) 0 = 66.66MHz out, 1 = 33.33 MHz Out. Weak pull up. (-2, -21) 0 = 33.33MHz out, 1 = 25 MHz Out. Weak pull up.", 5 AVSS (power) "Analog Ground", 6 VSSL (power) "CLK Ground", 7 CLKA (out) "Clock Outputs at VDDL level", 8 CLKB (out) "Clock Outputs at VDDL level", 9 CLKC (out) "Clock Outputs at VDDL level", 10 SSON (in) "Spread Spectrum Enable pin 0 = SS off; 1 = SS on. Weak pull up.", 11 VDDL (power) "3.3V Clock Voltage Supply", 12 CLKD (out) "Clock Outputs at VDDL level", 13 VSS (power) "Ground", 14 REF (out) "Reference Output at VDD Level", 15 NC "No Connect", 16 XOUT "Crystal Output"

## CY26121ZI-21T
designator U?
PacketClock(TM) Spread Spectrum Clock Generator, 3.3 V, 5 Outputs, 25 to 33.33 MHz, -40 to 85 degC, 16-Pin TSSOP (Z16), Tape and Reel; Manufacturer: Cypress; PartNumber: CY26121ZI-21T; Input Frequency Max. (MHz): 25; Max. Operating Voltage (V): 3.465; Min. Operating Voltage (V): 3.135; No. of Outputs: 5; Output Frequency Max. (MHz): 33.33; DatasheetVersion: Rev. *A; PackageVersion: Rev. *D; PackageReference: Z16; PackageDescription: 16-Pin Thin Shrink Small Outline Package, Body 5 x 4.4 mm, Pitch 0.65 mm; Supplier 1: Digi-Key; Supplier Part Number 1: CY26121ZI-21T-ND; Supplier 2: Mouser; Supplier Part Number 2: 727-CY26121ZI-21T; Input Frequency Min. (MHz): 25; Max. Operating Temp. (degreesC): 85; Min. Operating Temp. (degreesC): -40; Output Frequency Min. (MHz): 25; Packing: Tape and Reel; RoHS: Pb-Free; Mounting Technology: Surface Mount; Code_JEDEC: MO-153; ComponentLink1Description: Manufacturer URL; ComponentLink1URL: http://www.cypress.com/; ComponentLink2Description: Datasheet; ComponentLink2URL: http://www.cypress.com/?docID=5302; ComponentLink3Description: Package Specification; ComponentLink3URL: http://www.cypress.com/?docID=46959
footprint CYP-Z16_N (SOP, 16-Leads, Body 5.1x4.5mm, Pitch 0.65mm, IPC Medium Density)
footprint CYP-Z16_L (SOP, 16-Leads, Body 5.1x4.5mm, Pitch 0.65mm, IPC High Density)
footprint CYP-Z16_M (SOP, 16-Leads, Body 5.1x4.5mm, Pitch 0.65mm, IPC Low Density)
pins: 1 XIN (in) "Reference input Or Crystal Input", 2 VDD (power) "3.3V Voltage Supply", 3 AVDD (power) "3.3V Analog Voltage", 4 CLKSEL (in) "(orig., -11,-3,-31) 0 = 66.66MHz out, 1 = 33.33 MHz Out. Weak pull up. (-2, -21) 0 = 33.33MHz out, 1 = 25 MHz Out. Weak pull up.", 5 AVSS (power) "Analog Ground", 6 VSSL (power) "CLK Ground", 7 CLKA (out) "Clock Outputs at VDDL level", 8 CLKB (out) "Clock Outputs at VDDL level", 9 CLKC (out) "Clock Outputs at VDDL level", 10 SSON (in) "Spread Spectrum Enable pin 0 = SS off; 1 = SS on. Weak pull up.", 11 VDDL (power) "3.3V Clock Voltage Supply", 12 CLKD (out) "Clock Outputs at VDDL level", 13 VSS (power) "Ground", 14 REF (out) "Reference Output at VDD Level", 15 NC "No Connect", 16 XOUT "Crystal Output"

## CY26121ZIT
designator U?
PacketClock(TM) Spread Spectrum Clock Generator, 3.3 V, 5 Outputs, 33.33 to 66.66 MHz, -40 to 85 degC, 16-Pin TSSOP (Z16), Tape and Reel; Manufacturer: Cypress; PartNumber: CY26121ZIT; Input Frequency Max. (MHz): 25; Max. Operating Voltage (V): 3.465; Min. Operating Voltage (V): 3.135; No. of Outputs: 5; Output Frequency Max. (MHz): 66.66; Output Frequency Min. (MHz): 33.33; DatasheetVersion: Rev. *A; PackageVersion: Rev. *D; PackageReference: Z16; PackageDescription: 16-Pin Thin Shrink Small Outline Package, Body 5 x 4.4 mm, Pitch 0.65 mm; Input Frequency Min. (MHz): 25; Max. Operating Temp. (degreesC): 85; Min. Operating Temp. (degreesC): -40; Packing: Tape and Reel; RoHS: Pb-Free; Mounting Technology: Surface Mount; Code_JEDEC: MO-153; ComponentLink1Description: Manufacturer URL; ComponentLink1URL: http://www.cypress.com/; ComponentLink2Description: Datasheet; ComponentLink2URL: http://www.cypress.com/?docID=5302; ComponentLink3Description: Package Specification; ComponentLink3URL: http://www.cypress.com/?docID=46959
footprint CYP-Z16_N (SOP, 16-Leads, Body 5.1x4.5mm, Pitch 0.65mm, IPC Medium Density)
footprint CYP-Z16_L (SOP, 16-Leads, Body 5.1x4.5mm, Pitch 0.65mm, IPC High Density)
footprint CYP-Z16_M (SOP, 16-Leads, Body 5.1x4.5mm, Pitch 0.65mm, IPC Low Density)
pins: 1 XIN (in) "Reference input Or Crystal Input", 2 VDD (power) "3.3V Voltage Supply", 3 AVDD (power) "3.3V Analog Voltage", 4 CLKSEL (in) "(orig., -11,-3,-31) 0 = 66.66MHz out, 1 = 33.33 MHz Out. Weak pull up. (-2, -21) 0 = 33.33MHz out, 1 = 25 MHz Out. Weak pull up.", 5 AVSS (power) "Analog Ground", 6 VSSL (power) "CLK Ground", 7 CLKA (out) "Clock Outputs at VDDL level", 8 CLKB (out) "Clock Outputs at VDDL level", 9 CLKC (out) "Clock Outputs at VDDL level", 10 SSON (in) "Spread Spectrum Enable pin 0 = SS off; 1 = SS on. Weak pull up.", 11 VDDL (power) "3.3V Clock Voltage Supply", 12 CLKD (out) "Clock Outputs at VDDL level", 13 VSS (power) "Ground", 14 REF (out) "Reference Output at VDD Level", 15 NC "No Connect", 16 XOUT "Crystal Output"

## CY26121ZXC-21
designator U?
PacketClock(TM) Spread Spectrum Clock Generator, 3.3 V, 5 Outputs, 25 to 33.33 MHz, 0 to 70 degC, 16-Pin TSSOP (ZX16), Tube; Manufacturer: Cypress; PartNumber: CY26121ZXC-21; Input Frequency Max. (MHz): 25; Max. Operating Voltage (V): 3.465; Min. Operating Voltage (V): 3.135; No. of Outputs: 5; Output Frequency Max. (MHz): 33.33; DatasheetVersion: Rev. *A; PackageVersion: Rev. *D, 09/2011; PackageReference: ZX16; PackageDescription: 16-Pin Thin Shrink Small Outline Package, Body 5 x 4.4 mm, Pitch 0.65 mm; Supplier 1: Mouser; Supplier Part Number 1: N/A; Input Frequency Min. (MHz): 25; Max. Operating Temp. (degreesC): 70; Min. Operating Temp. (degreesC): 0; Output Frequency Min. (MHz): 25; Packing: Tube; RoHS: Pb-Free; Mounting Technology: Surface Mount; Code_JEDEC: MO-153; ComponentLink1Description: Manufacturer URL; ComponentLink1URL: http://www.cypress.com/; ComponentLink2Description: Datasheet; ComponentLink2URL: http://www.cypress.com/?docID=5302; ComponentLink3Description: Package Specification; ComponentLink3URL: http://www.cypress.com/?docID=39143
footprint CYP-ZX16_N (SOP, 16-Leads, Body 5.1x4.5mm, Pitch 0.65mm, IPC Medium Density)
footprint CYP-ZX16_L (SOP, 16-Leads, Body 5.1x4.5mm, Pitch 0.65mm, IPC High Density)
footprint CYP-ZX16_M (SOP, 16-Leads, Body 5.1x4.5mm, Pitch 0.65mm, IPC Low Density)
pins: 1 XIN (in) "Reference input Or Crystal Input", 2 VDD (power) "3.3V Voltage Supply", 3 AVDD (power) "3.3V Analog Voltage", 4 CLKSEL (in) "(orig., -11,-3,-31) 0 = 66.66MHz out, 1 = 33.33 MHz Out. Weak pull up. (-2, -21) 0 = 33.33MHz out, 1 = 25 MHz Out. Weak pull up.", 5 AVSS (power) "Analog Ground", 6 VSSL (power) "CLK Ground", 7 CLKA (out) "Clock Outputs at VDDL level", 8 CLKB (out) "Clock Outputs at VDDL level", 9 CLKC (out) "Clock Outputs at VDDL level", 10 SSON (in) "Spread Spectrum Enable pin 0 = SS off; 1 = SS on. Weak pull up.", 11 VDDL (power) "3.3V Clock Voltage Supply", 12 CLKD (out) "Clock Outputs at VDDL level", 13 VSS (power) "Ground", 14 REF (out) "Reference Output at VDD Level", 15 NC "No Connect", 16 XOUT "Crystal Output"

## CY26121ZXC-21T
designator U?
PacketClock(TM) Spread Spectrum Clock Generator, 3.3 V, 5 Outputs, 25 to 33.33 MHz, 0 to 70 degC, 16-Pin TSSOP (ZX16), Tape and Reel; Manufacturer: Cypress; PartNumber: CY26121ZXC-21T; Input Frequency Max. (MHz): 25; Max. Operating Voltage (V): 3.465; Min. Operating Voltage (V): 3.135; No. of Outputs: 5; Output Frequency Max. (MHz): 33.33; DatasheetVersion: Rev. *A; PackageVersion: Rev. *D, 09/2011; PackageReference: ZX16; PackageDescription: 16-Pin Thin Shrink Small Outline Package, Body 5 x 4.4 mm, Pitch 0.65 mm; Supplier 1: Mouser; Supplier Part Number 1: N/A; Input Frequency Min. (MHz): 25; Max. Operating Temp. (degreesC): 70; Min. Operating Temp. (degreesC): 0; Output Frequency Min. (MHz): 25; Packing: Tape and Reel; RoHS: Pb-Free; Mounting Technology: Surface Mount; Code_JEDEC: MO-153; ComponentLink1Description: Manufacturer URL; ComponentLink1URL: http://www.cypress.com/; ComponentLink2Description: Datasheet; ComponentLink2URL: http://www.cypress.com/?docID=5302; ComponentLink3Description: Package Specification; ComponentLink3URL: http://www.cypress.com/?docID=39143
footprint CYP-ZX16_N (SOP, 16-Leads, Body 5.1x4.5mm, Pitch 0.65mm, IPC Medium Density)
footprint CYP-ZX16_L (SOP, 16-Leads, Body 5.1x4.5mm, Pitch 0.65mm, IPC High Density)
footprint CYP-ZX16_M (SOP, 16-Leads, Body 5.1x4.5mm, Pitch 0.65mm, IPC Low Density)
pins: 1 XIN (in) "Reference input Or Crystal Input", 2 VDD (power) "3.3V Voltage Supply", 3 AVDD (power) "3.3V Analog Voltage", 4 CLKSEL (in) "(orig., -11,-3,-31) 0 = 66.66MHz out, 1 = 33.33 MHz Out. Weak pull up. (-2, -21) 0 = 33.33MHz out, 1 = 25 MHz Out. Weak pull up.", 5 AVSS (power) "Analog Ground", 6 VSSL (power) "CLK Ground", 7 CLKA (out) "Clock Outputs at VDDL level", 8 CLKB (out) "Clock Outputs at VDDL level", 9 CLKC (out) "Clock Outputs at VDDL level", 10 SSON (in) "Spread Spectrum Enable pin 0 = SS off; 1 = SS on. Weak pull up.", 11 VDDL (power) "3.3V Clock Voltage Supply", 12 CLKD (out) "Clock Outputs at VDDL level", 13 VSS (power) "Ground", 14 REF (out) "Reference Output at VDD Level", 15 NC "No Connect", 16 XOUT "Crystal Output"

## CY26121ZXI-21
designator U?
PacketClock(TM) Spread Spectrum Clock Generator, 3.3 V, 5 Outputs, 25 to 33.33 MHz, -40 to 85 degC, 16-Pin TSSOP (ZX16), Tube; Manufacturer: Cypress; PartNumber: CY26121ZXI-21; Input Frequency Max. (MHz): 25; Max. Operating Voltage (V): 3.465; Min. Operating Voltage (V): 3.135; No. of Outputs: 5; Output Frequency Max. (MHz): 33.33; DatasheetVersion: Rev. *A; PackageVersion: Rev. *D, 09/2011; PackageReference: ZX16; PackageDescription: 16-Pin Thin Shrink Small Outline Package, Body 5 x 4.4 mm, Pitch 0.65 mm; Input Frequency Min. (MHz): 25; Max. Operating Temp. (degreesC): 85; Min. Operating Temp. (degreesC): -40; Output Frequency Min. (MHz): 25; Packing: Tube; RoHS: Pb-Free; Mounting Technology: Surface Mount; Code_JEDEC: MO-153; ComponentLink1Description: Manufacturer URL; ComponentLink1URL: http://www.cypress.com/; ComponentLink2Description: Datasheet; ComponentLink2URL: http://www.cypress.com/?docID=5302; ComponentLink3Description: Package Specification; ComponentLink3URL: http://www.cypress.com/?docID=39143
footprint CYP-ZX16_N (SOP, 16-Leads, Body 5.1x4.5mm, Pitch 0.65mm, IPC Medium Density)
footprint CYP-ZX16_L (SOP, 16-Leads, Body 5.1x4.5mm, Pitch 0.65mm, IPC High Density)
footprint CYP-ZX16_M (SOP, 16-Leads, Body 5.1x4.5mm, Pitch 0.65mm, IPC Low Density)
pins: 1 XIN (in) "Reference input Or Crystal Input", 2 VDD (power) "3.3V Voltage Supply", 3 AVDD (power) "3.3V Analog Voltage", 4 CLKSEL (in) "(orig., -11,-3,-31) 0 = 66.66MHz out, 1 = 33.33 MHz Out. Weak pull up. (-2, -21) 0 = 33.33MHz out, 1 = 25 MHz Out. Weak pull up.", 5 AVSS (power) "Analog Ground", 6 VSSL (power) "CLK Ground", 7 CLKA (out) "Clock Outputs at VDDL level", 8 CLKB (out) "Clock Outputs at VDDL level", 9 CLKC (out) "Clock Outputs at VDDL level", 10 SSON (in) "Spread Spectrum Enable pin 0 = SS off; 1 = SS on. Weak pull up.", 11 VDDL (power) "3.3V Clock Voltage Supply", 12 CLKD (out) "Clock Outputs at VDDL level", 13 VSS (power) "Ground", 14 REF (out) "Reference Output at VDD Level", 15 NC "No Connect", 16 XOUT "Crystal Output"

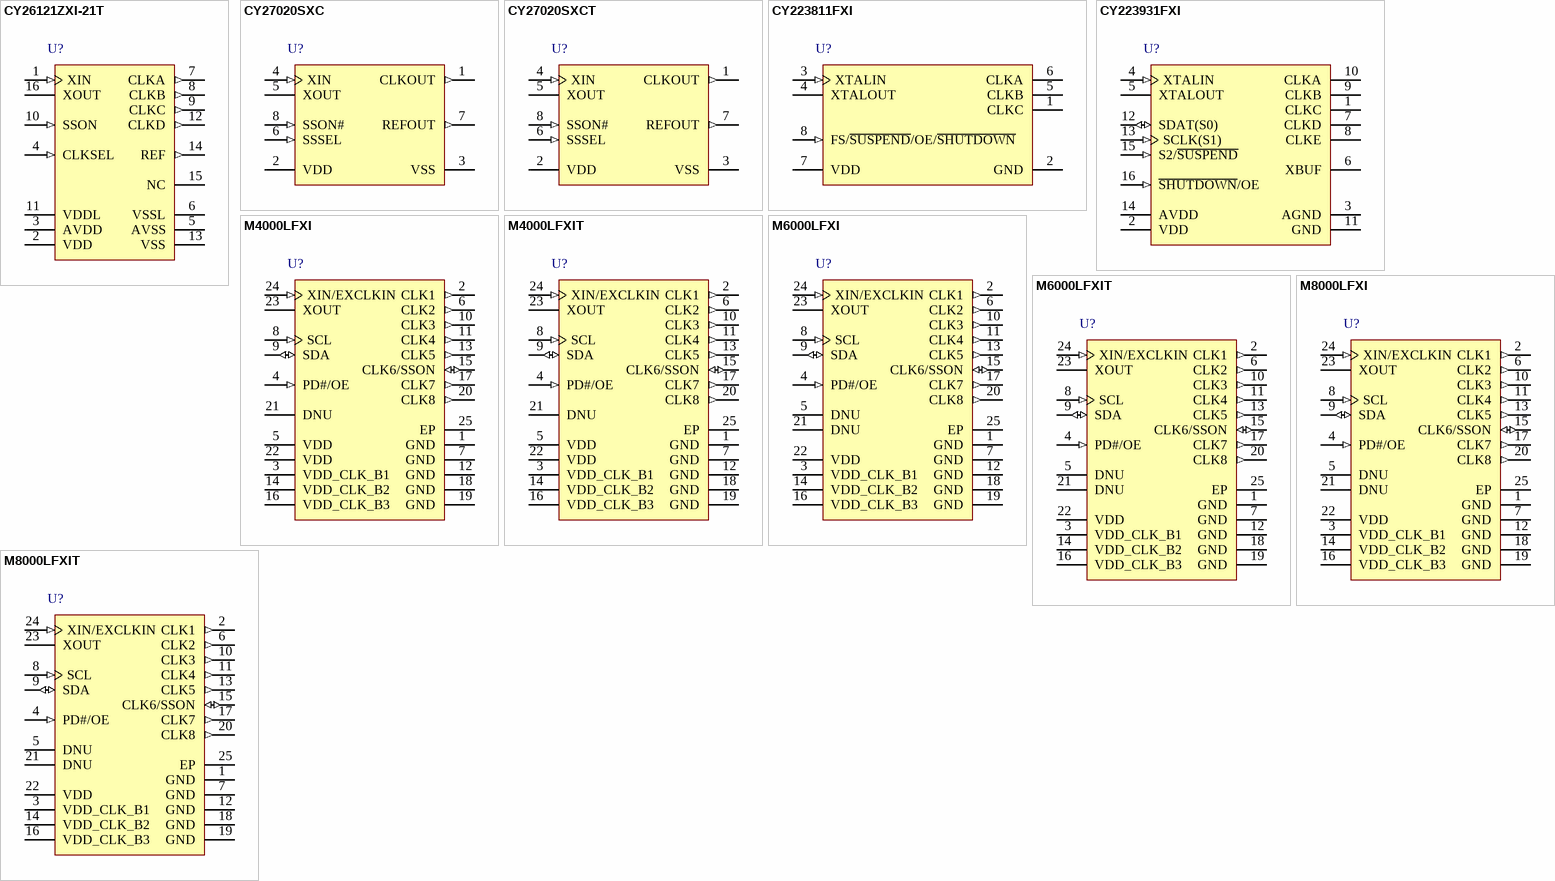
[diagram p8: symbols CY26121ZXI-21T to M8000LFXIT]

## CY26121ZXI-21T
designator U?
PacketClock(TM) Spread Spectrum Clock Generator, 3.3 V, 5 Outputs, 25 to 33.33 MHz, -40 to 85 degC, 16-Pin TSSOP (ZX16), Tape and Reel; Manufacturer: Cypress; PartNumber: CY26121ZXI-21T; Input Frequency Max. (MHz): 25; Max. Operating Voltage (V): 3.465; Min. Operating Voltage (V): 3.13; No. of Outputs: 5; Output Frequency Max. (MHz): 33.33; DatasheetVersion: Rev. *A; PackageVersion: Rev. *D, 09/2011; PackageReference: ZX16; PackageDescription: 16-Pin Thin Shrink Small Outline Package, Body 5 x 4.4 mm, Pitch 0.65 mm; Input Frequency Min. (MHz): 25; Max. Operating Temp. (degreesC): 85; Min. Operating Temp. (degreesC): -40; Output Frequency Min. (MHz): 25; Packing: Tape and Reel; RoHS: Pb-Free; Mounting Technology: Surface Mount; Code_JEDEC: MO-153; ComponentLink1Description: Manufacturer URL; ComponentLink1URL: http://www.cypress.com/; ComponentLink2Description: Datasheet; ComponentLink2URL: http://www.cypress.com/?docID=5302; ComponentLink3Description: Package Specification; ComponentLink3URL: http://www.cypress.com/?docID=39143
footprint CYP-ZX16_N (SOP, 16-Leads, Body 5.1x4.5mm, Pitch 0.65mm, IPC Medium Density)
footprint CYP-ZX16_L (SOP, 16-Leads, Body 5.1x4.5mm, Pitch 0.65mm, IPC High Density)
footprint CYP-ZX16_M (SOP, 16-Leads, Body 5.1x4.5mm, Pitch 0.65mm, IPC Low Density)
pins: 1 XIN (in) "Reference input Or Crystal Input", 2 VDD (power) "3.3V Voltage Supply", 3 AVDD (power) "3.3V Analog Voltage", 4 CLKSEL (in) "(orig., -11,-3,-31) 0 = 66.66MHz out, 1 = 33.33 MHz Out. Weak pull up. (-2, -21) 0 = 33.33MHz out, 1 = 25 MHz Out. Weak pull up.", 5 AVSS (power) "Analog Ground", 6 VSSL (power) "CLK Ground", 7 CLKA (out) "Clock Outputs at VDDL level", 8 CLKB (out) "Clock Outputs at VDDL level", 9 CLKC (out) "Clock Outputs at VDDL level", 10 SSON (in) "Spread Spectrum Enable pin 0 = SS off; 1 = SS on. Weak pull up.", 11 VDDL (power) "3.3V Clock Voltage Supply", 12 CLKD (out) "Clock Outputs at VDDL level", 13 VSS (power) "Ground", 14 REF (out) "Reference Output at VDD Level", 15 NC "No Connect", 16 XOUT "Crystal Output"

## CY27020SXC
designator U?
Spread Spectrum Clock Generator, 3.3 V, 2 Outputs, 48 MHz, 0 to 70 degC, 8-Pin SOIC (SX8), Tube; Manufacturer: Cypress; PartNumber: CY27020SXC; Input Frequency Max. (MHz): 44; Input Frequency Min. (MHz): 52; Max. Operating Voltage (V): 3.63; Min. Operating Voltage (V): 2.97; No. of Outputs: 2; DatasheetVersion: Rev. *F; PackageVersion: Rev. *E, 06/2011; PackageReference: SX8; PackageDescription: 8-pin Lead SOIC-S08, Body 4.89 x 3.90 mm,Pitch 1.27 mm; Supplier 1: Digi-Key; Supplier Part Number 1: CY27020SXC-ND; Supplier 2: Mouser; Supplier Part Number 2: 727-CY27020SXC; Max. Operating Temp. (degreesC): 70; Min. Operating Temp. (degreesC): 0; Packing: Tube; RoHS: Pb-Free; Mounting Technology: Surface Mount; Code_JEDEC: MS-012; ComponentLink1Description: Manufacturer URL; ComponentLink1URL: http://www.cypress.com/; ComponentLink2Description: Datasheet; ComponentLink2URL: http://www.cypress.com/?docID=46287; ComponentLink3Description: Package Specification; ComponentLink3URL: http://www.cypress.com/?docID=39153
footprint CYP-SX8_N (SOIC, 8-Leads, Body 4.89x3.90mm, Pitch 1.27mm, IPC Medium Density)
footprint CYP-SX8_L (SOIC, 8-Leads, Body 4.89x3.90mm, Pitch 1.27mm, IPC High Density)
footprint CYP-SX8_M (SOIC, 8-Leads, Body 4.89x3.90mm, Pitch 1.27mm, IPC Low Density)
pins: 1 CLKOUT (out) "Fixed frequency 48.00 MHz spread spectrum clock output. See Table on page 1 for frequency selections", 2 VDD (power) "3.3-V power supply", 3 VSS (power) "Ground", 4 XIN (in) "Oscillator buffer input. Connect to an external parallel resonant crystal (nominally 48.00 MHz) or externally generated 48 MHz reference clock.", 5 XOUT "Oscillator buffer output. Connect to an external parallel resonant crystal. Do not connect when an externally generated reference clock is applied at XIN.", 6 SSSEL (in) "Spread spectrum percentage select input. See Table on page 1 for details.", 7 REFOUT (out) "Buffered output of XIN.", 8 SSON# (in) "Spread spectrum enable input. When asserted LOW, spread spectrum is enabled."